# Altium footprint library K230D.PcbLib: 1 footprints
Each footprint in its own frame and in the unit in brackets; x right, y up, seen from the top. Pads: shape width x height; smd on the part's side, far side on the other; paste and mask are expansions set on the pad; w line width, h text height; cw(c..) or ccw(c..) is an arc to the next point about the centre after c.
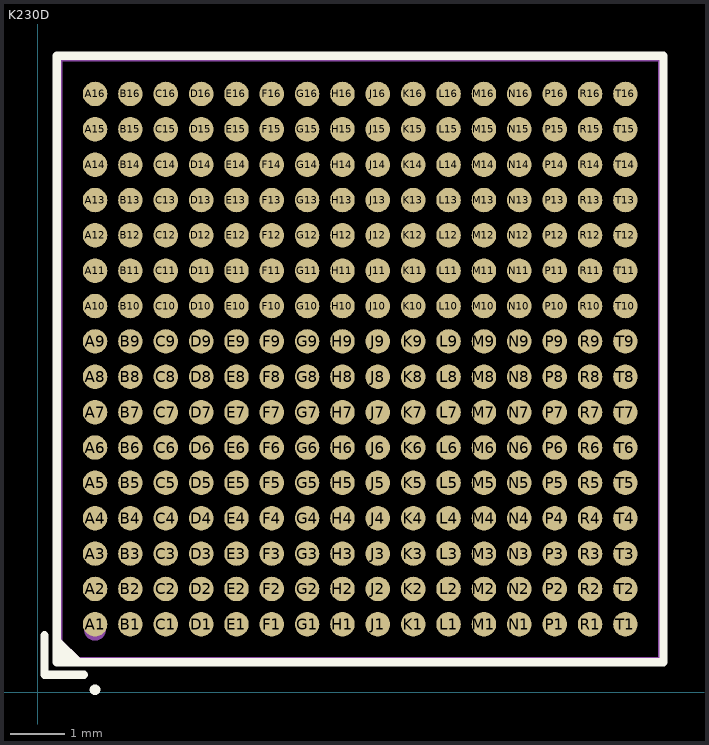
[diagram p0: the footprint, top view; thin cyan lines are the x and y axes]

## K230D [mil]
pads (256):
  round 17.72 smd paste-2 mask-1.5: A1(41.6,49.3) A2(41.6,74.8) A3(41.6,100.4) A4(41.6,126) A5(41.6,151.6) A6(41.6,177.2) A7(41.6,202.8) A8(41.6,228.4) A9(41.6,254) A10(41.6,279.6) A11(41.6,305.2) A12(41.6,330.8) A13(41.6,356.3) A14(41.6,381.9) A15(41.6,407.5) A16(41.6,433.1) B1(67.2,49.3) B2(67.2,74.8) B3(67.2,100.4) B4(67.2,126) B5(67.2,151.6) B6(67.2,177.2) B7(67.2,202.8) B8(67.2,228.4) B9(67.2,254) B10(67.2,279.6) B11(67.2,305.2) B12(67.2,330.8) B13(67.2,356.3) B14(67.2,381.9) B15(67.2,407.5) B16(67.2,433.1) C1(92.8,49.3) C2(92.8,74.8) C3(92.8,100.4) C4(92.8,126) C5(92.8,151.6) C6(92.8,177.2) C7(92.8,202.8) C8(92.8,228.4) C9(92.8,254) C10(92.8,279.6) C11(92.8,305.2) C12(92.8,330.8) C13(92.8,356.3) C14(92.8,381.9) C15(92.8,407.5) C16(92.8,433.1) D1(118.4,49.3) D2(118.4,74.8) D3(118.4,100.4) D4(118.4,126) D5(118.4,151.6) D6(118.4,177.2) D7(118.4,202.8) D8(118.4,228.4) D9(118.4,254) D10(118.4,279.6) D11(118.4,305.2) D12(118.4,330.8) D13(118.4,356.3) D14(118.4,381.9) D15(118.4,407.5) D16(118.4,433.1) E1(144,49.3) E2(144,74.8) E3(144,100.4) E4(144,126) E5(144,151.6) E6(144,177.2) E7(144,202.8) E8(144,228.4) E9(144,254) E10(144,279.6) E11(144,305.2) E12(144,330.8) E13(144,356.3) E14(144,381.9) E15(144,407.5) E16(144,433.1) F1(169.6,49.3) F2(169.6,74.8) F3(169.6,100.4) F4(169.6,126) F5(169.6,151.6) F6(169.6,177.2) F7(169.6,202.8) F8(169.6,228.4) F9(169.6,254) F10(169.6,279.6) F11(169.6,305.2) F12(169.6,330.8) F13(169.6,356.3) F14(169.6,381.9) F15(169.6,407.5) F16(169.6,433.1) G1(195.1,49.3) G2(195.1,74.8) G3(195.1,100.4) G4(195.1,126) G5(195.1,151.6) G6(195.1,177.2) G7(195.1,202.8) G8(195.1,228.4) G9(195.1,254) G10(195.1,279.6) G11(195.1,305.2) G12(195.1,330.8) G13(195.1,356.3) G14(195.1,381.9) G15(195.1,407.5) G16(195.1,433.1) H1(220.7,49.3) H2(220.7,74.8) H3(220.7,100.4) H4(220.7,126) H5(220.7,151.6) H6(220.7,177.2) H7(220.7,202.8) H8(220.7,228.4) H9(220.7,254) H10(220.7,279.6) H11(220.7,305.2) H12(220.7,330.8) H13(220.7,356.3) H14(220.7,381.9) H15(220.7,407.5) H16(220.7,433.1) J1(246.3,49.3) J2(246.3,74.8) J3(246.3,100.4) J4(246.3,126) J5(246.3,151.6) J6(246.3,177.2) J7(246.3,202.8) J8(246.3,228.4) J9(246.3,254) J10(246.3,279.6) J11(246.3,305.2) J12(246.3,330.8) J13(246.3,356.3) J14(246.3,381.9) J15(246.3,407.5) J16(246.3,433.1) K1(271.9,49.3) K2(271.9,74.8) K3(271.9,100.4) K4(271.9,126) K5(271.9,151.6) K6(271.9,177.2) K7(271.9,202.8) K8(271.9,228.4) K9(271.9,254) K10(271.9,279.6) K11(271.9,305.2) K12(271.9,330.8) K13(271.9,356.3) K14(271.9,381.9) K15(271.9,407.5) K16(271.9,433.1) L1(297.5,49.3) L2(297.5,74.8) L3(297.5,100.4) L4(297.5,126) L5(297.5,151.6) L6(297.5,177.2) L7(297.5,202.8) L8(297.5,228.4) L9(297.5,254) L10(297.5,279.6) L11(297.5,305.2) L12(297.5,330.8) L13(297.5,356.3) L14(297.5,381.9) L15(297.5,407.5) L16(297.5,433.1) M1(323.1,49.3) M2(323.1,74.8) M3(323.1,100.4) M4(323.1,126) M5(323.1,151.6) M6(323.1,177.2) M7(323.1,202.8) M8(323.1,228.4) M9(323.1,254) M10(323.1,279.6) M11(323.1,305.2) M12(323.1,330.8) M13(323.1,356.3) M14(323.1,381.9) M15(323.1,407.5) M16(323.1,433.1) N1(348.7,49.3) N2(348.7,74.8) N3(348.7,100.4) N4(348.7,126) N5(348.7,151.6) N6(348.7,177.2) N7(348.7,202.8) N8(348.7,228.4) N9(348.7,254) N10(348.7,279.6) N11(348.7,305.2) N12(348.7,330.8) N13(348.7,356.3) N14(348.7,381.9) N15(348.7,407.5) N16(348.7,433.1) P1(374.3,49.3) P2(374.3,74.8) P3(374.3,100.4) P4(374.3,126) P5(374.3,151.6) P6(374.3,177.2) P7(374.3,202.8) P8(374.3,228.4) P9(374.3,254) P10(374.3,279.6) P11(374.3,305.2) P12(374.3,330.8) P13(374.3,356.3) P14(374.3,381.9) P15(374.3,407.5) P16(374.3,433.1) R1(399.9,49.3) R2(399.9,74.8) R3(399.9,100.4) R4(399.9,126) R5(399.9,151.6) R6(399.9,177.2) R7(399.9,202.8) R8(399.9,228.4) R9(399.9,254) R10(399.9,279.6) R11(399.9,305.2) R12(399.9,330.8) R13(399.9,356.3) R14(399.9,381.9) R15(399.9,407.5) R16(399.9,433.1) T1(425.5,49.3) T2(425.5,74.8) T3(425.5,100.4) T4(425.5,126) T5(425.5,151.6) T6(425.5,177.2) T7(425.5,202.8) T8(425.5,228.4) T9(425.5,254) T10(425.5,279.6) T11(425.5,305.2) T12(425.5,330.8) T13(425.5,356.3) T14(425.5,381.9) T15(425.5,407.5) T16(425.5,433.1)
Top Overlay:
  region: 14,21.7 33.7,21.7 14,41.3
  lines w3.9: 39.6,2 40,3.1 41,3.8 42.2,3.8 43.2,3.1 43.6,2 43.2,0.8 42.2,0.1 41,0.1 40,0.8 39.6,2
  lines w6: 5,41.3 5,12.7 33.7,12.7 ; 14,21.7 14,460.7 453.1,460.7 453.1,21.7 14,21.7
Top Paste:
  drawing of 256 lines, arcs and shapes, not listed
Mechanical 2:
  region: 14,21.7 33.7,21.7 14,41.3
  lines w7.9: 37.7,45.3 38.1,47 39.1,48.4 40.7,49.2 42.5,49.2 44.1,48.4 45.2,47 45.5,45.3 45.2,43.6 44.1,42.2 42.5,41.5 40.7,41.5 39.1,42.2 38.1,43.6 37.7,45.3
Mechanical 6:
  lines w2: 17,24.7 17,457.7 450.1,457.7 450.1,24.7 17,24.7
Mechanical 8:
  region: 19.4,24.7 19,23.4 18,22.5 16.7,22.3 15.5,22.9 14.7,24 14.7,25.3 15.5,26.4 16.7,27 18,26.8 19,25.9
Mechanical 9:
  drawing of 256 lines, arcs and shapes, not listed